# EAGLE library part MAX44009 (library BQ25504)
low power ambient light sensor
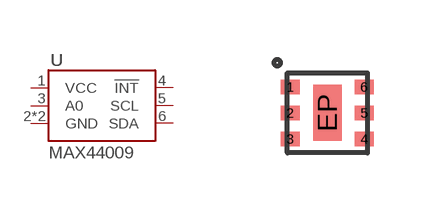
[diagram p82: symbol with the pads of UDFN-6-EXPOSED; footprint UDFN-6-EXPOSED]

Designator prefix U

## MAX44009 (DIGIKEY: MAX44009EDT+TCT-ND; MANUFACTURER: MAXIM; MPN: MAX44009EDT+T)  [UDFN-6-EXPOSED]
1  VCC
2  GND
3  A0
4  !INT
5  SCL
6  SDA
EP  GND

## Footprint UDFN-6-EXPOSED (pad centres in mm)
smd 0.48 x 0.36: 1 -0.925,0.65; 2 -0.925,0; 3 -0.925,-0.65; 4 0.925,-0.65; 5 0.925,0; 6 0.925,0.65
smd 0.71 x 1.4: EP 0,0